# Altium schematic symbol library Connector GOST.SchLib: 90 symbols
Pins are listed as number, name and electrical type; pins without a type are passive.

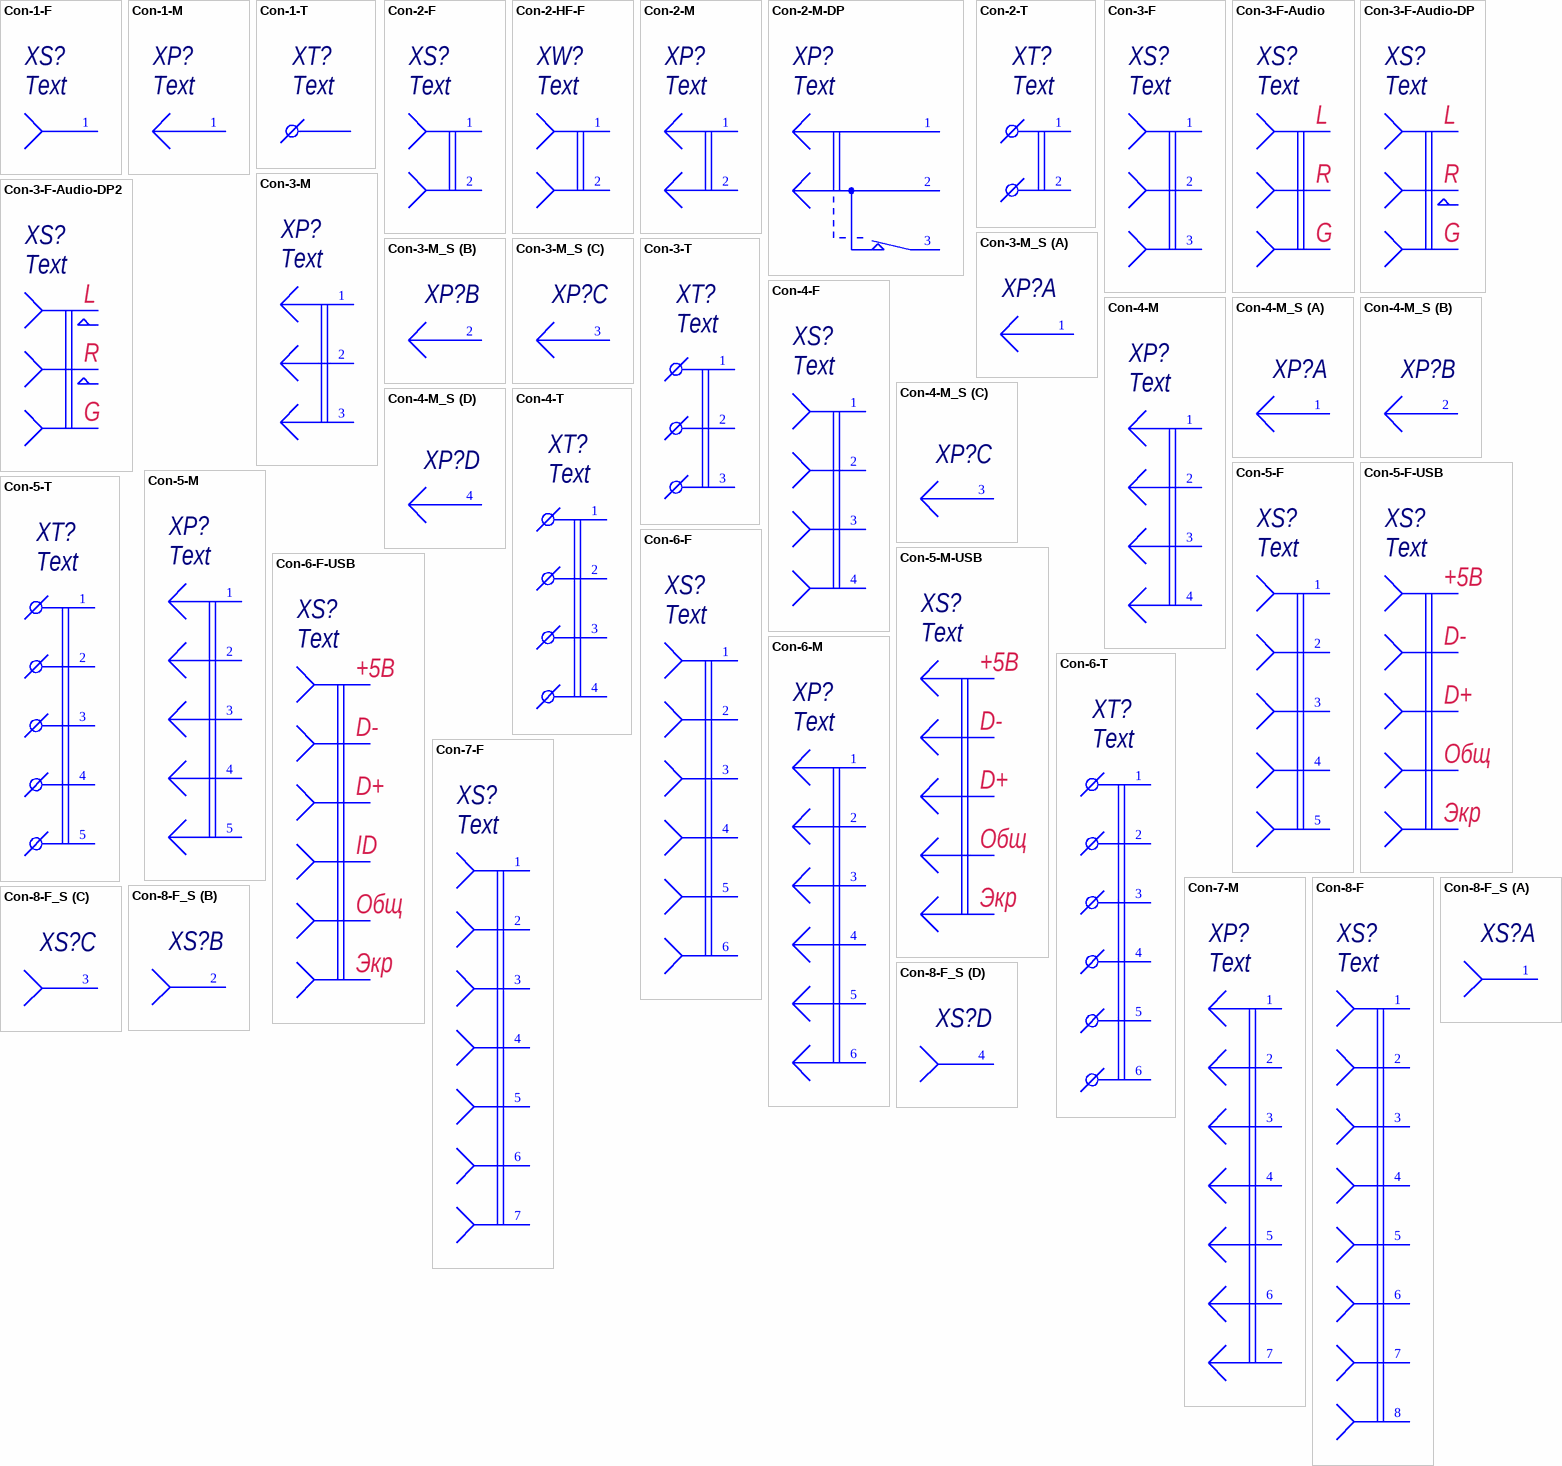
[diagram p0: symbols Con-1-F to Con-8-F_S]

## Con-1-F
designator XS?, comment Text
Published: 07.03.2013; Publisher: Andrew Danich; Type: Розетка
pins: 1

## Con-1-M
designator XP?, comment Text
Value: Connector; Published: 07.03.2013; Publisher: Andrew Danich; Type: Вилка
pins: 1

## Con-1-T
designator XT?, comment Text
Published: 27.07.2015; Publisher: Andrew Danich; Type: Клеммный соединитель
pins: 1

## Con-2-F
designator XS?, comment Text
Value: Connector; Published: 07.03.2013; Publisher: Andrew Danich; Type: Розетка
pins: 1, 2

## Con-2-HF-F
designator XW?, comment Text
Published: 27.07.2015; Publisher: Andrew Danich; Type: Розетка
pins: 1, 2

## Con-2-M
designator XP?, comment Text
Value: Connector; Published: 07.03.2013; Publisher: Andrew Danich; Type: Вилка
pins: 1, 2

## Con-2-M-DP
designator XP?, comment Text
Value: Connector; Published: 07.03.2013; Publisher: Andrew Danich; Type: Вилка
pins: 1, 2, 3

## Con-2-T
designator XT?, comment Text
Published: 27.07.2015; Publisher: Andrew Danich; Type: Клеммный соединитель
pins: 1, 2

## Con-3-F
designator XS?, comment Text
Value: Connector; Published: 07.03.2013; Publisher: Andrew Danich; Type: Розетка
pins: 1, 2, 3

## Con-3-F-Audio
designator XS?, comment Text
Published: 07.03.2013; Publisher: Andrew Danich; Type: Розетка
pins: 1, 2, 3
text: L; R; G

## Con-3-F-Audio-DP
designator XS?, comment Text
Published: 07.03.2013; Publisher: Andrew Danich; Type: Розетка
pins: 1, 2, 3, 4
text: L; R; G

## Con-3-F-Audio-DP2
designator XS?, comment Text
Published: 07.03.2013; Publisher: Andrew Danich; Type: Розетка
pins: 1, 2, 3, 4, 5
text: L; R; G

## Con-3-M
designator XP?, comment Text
Published: 07.03.2013; Publisher: Andrew Danich; Type: Вилка
pins: 1, 2, 3

## Con-3-M_S
designator XP?
Published: 07.03.2013; Publisher: Andrew Danich; Type: Вилка
part A pins: 1
part B pins: 2
part C pins: 3

## Con-3-T
designator XT?, comment Text
Published: 27.07.2015; Publisher: Andrew Danich; Type: Клеммный соединитель
pins: 1, 2, 3

## Con-4-F
designator XS?, comment Text
Value: Connector; Published: 07.03.2013; Publisher: Andrew Danich; Type: Розетка
pins: 1, 2, 3, 4

## Con-4-M
designator XP?, comment Text
Value: Connector; Published: 07.03.2013; Publisher: Andrew Danich; Type: Вилка
pins: 1, 2, 3, 4

## Con-4-M_S
designator XP?
Value: Connector; Published: 07.03.2013; Publisher: Andrew Danich; Type: Вилка
part A pins: 1
part B pins: 2
part C pins: 3
part D pins: 4

## Con-4-T
designator XT?, comment Text
Published: 27.07.2015; Publisher: Andrew Danich; Type: Клеммный соединитель
pins: 1, 2, 3, 4

## Con-5-F
designator XS?, comment Text
Value: Connector; Published: 07.03.2013; Publisher: Andrew Danich; Type: Розетка
pins: 1, 2, 3, 4, 5

## Con-5-F-USB
designator XS?, comment Text
Value: Connector; Published: 07.03.2013; Publisher: Andrew Danich; Type: Розетка
pins: 1, 2, 3, 4, 5
text: +5В; D-; D+; Общ; Экр

## Con-5-M
designator XP?, comment Text
Value: Connector; Published: 07.03.2013; Publisher: Andrew Danich; Type: Вилка
pins: 1, 2, 3, 4, 5

## Con-5-M-USB
designator XS?, comment Text
Published: 13.08.2015; Publisher: Andrew Danich; Type: Вилка
pins: 1, 2, 3, 4, 5
text: +5В; D-; D+; Общ; Экр

## Con-5-T
designator XT?, comment Text
Published: 27.07.2015; Publisher: Andrew Danich; Type: Клеммный соединитель
pins: 1, 2, 3, 4, 5

## Con-6-F
designator XS?, comment Text
Value: Connector; Published: 07.03.2013; Publisher: Andrew Danich; Type: Розетка
pins: 1, 2, 3, 4, 5, 6

## Con-6-F-USB
designator XS?, comment Text
Published: 11.04.2016; Publisher: Andrew Danich; Type: Розетка
pins: 1, 2, 3, 4, 5, 6
text: +5В; D-; D+; ID; Общ; Экр

## Con-6-M
designator XP?, comment Text
Value: Connector; Published: 07.03.2013; Publisher: Andrew Danich; Type: Вилка
pins: 1, 2, 3, 4, 5, 6

## Con-6-T
designator XT?, comment Text
Published: 27.07.2015; Publisher: Andrew Danich; Type: Клеммный соединитель
pins: 1, 2, 3, 4, 5, 6

## Con-7-F
designator XS?, comment Text
Value: Connector; Published: 07.03.2013; Publisher: Andrew Danich; Type: Розетка
pins: 1, 2, 3, 4, 5, 6, 7

## Con-7-M
designator XP?, comment Text
Value: Connector; Published: 07.03.2013; Publisher: Andrew Danich; Type: Вилка
pins: 1, 2, 3, 4, 5, 6, 7

## Con-8-F
designator XS?, comment Text
Value: Connector; Published: 07.03.2013; Publisher: Andrew Danich; Type: Розетка
pins: 1, 2, 3, 4, 5, 6, 7, 8

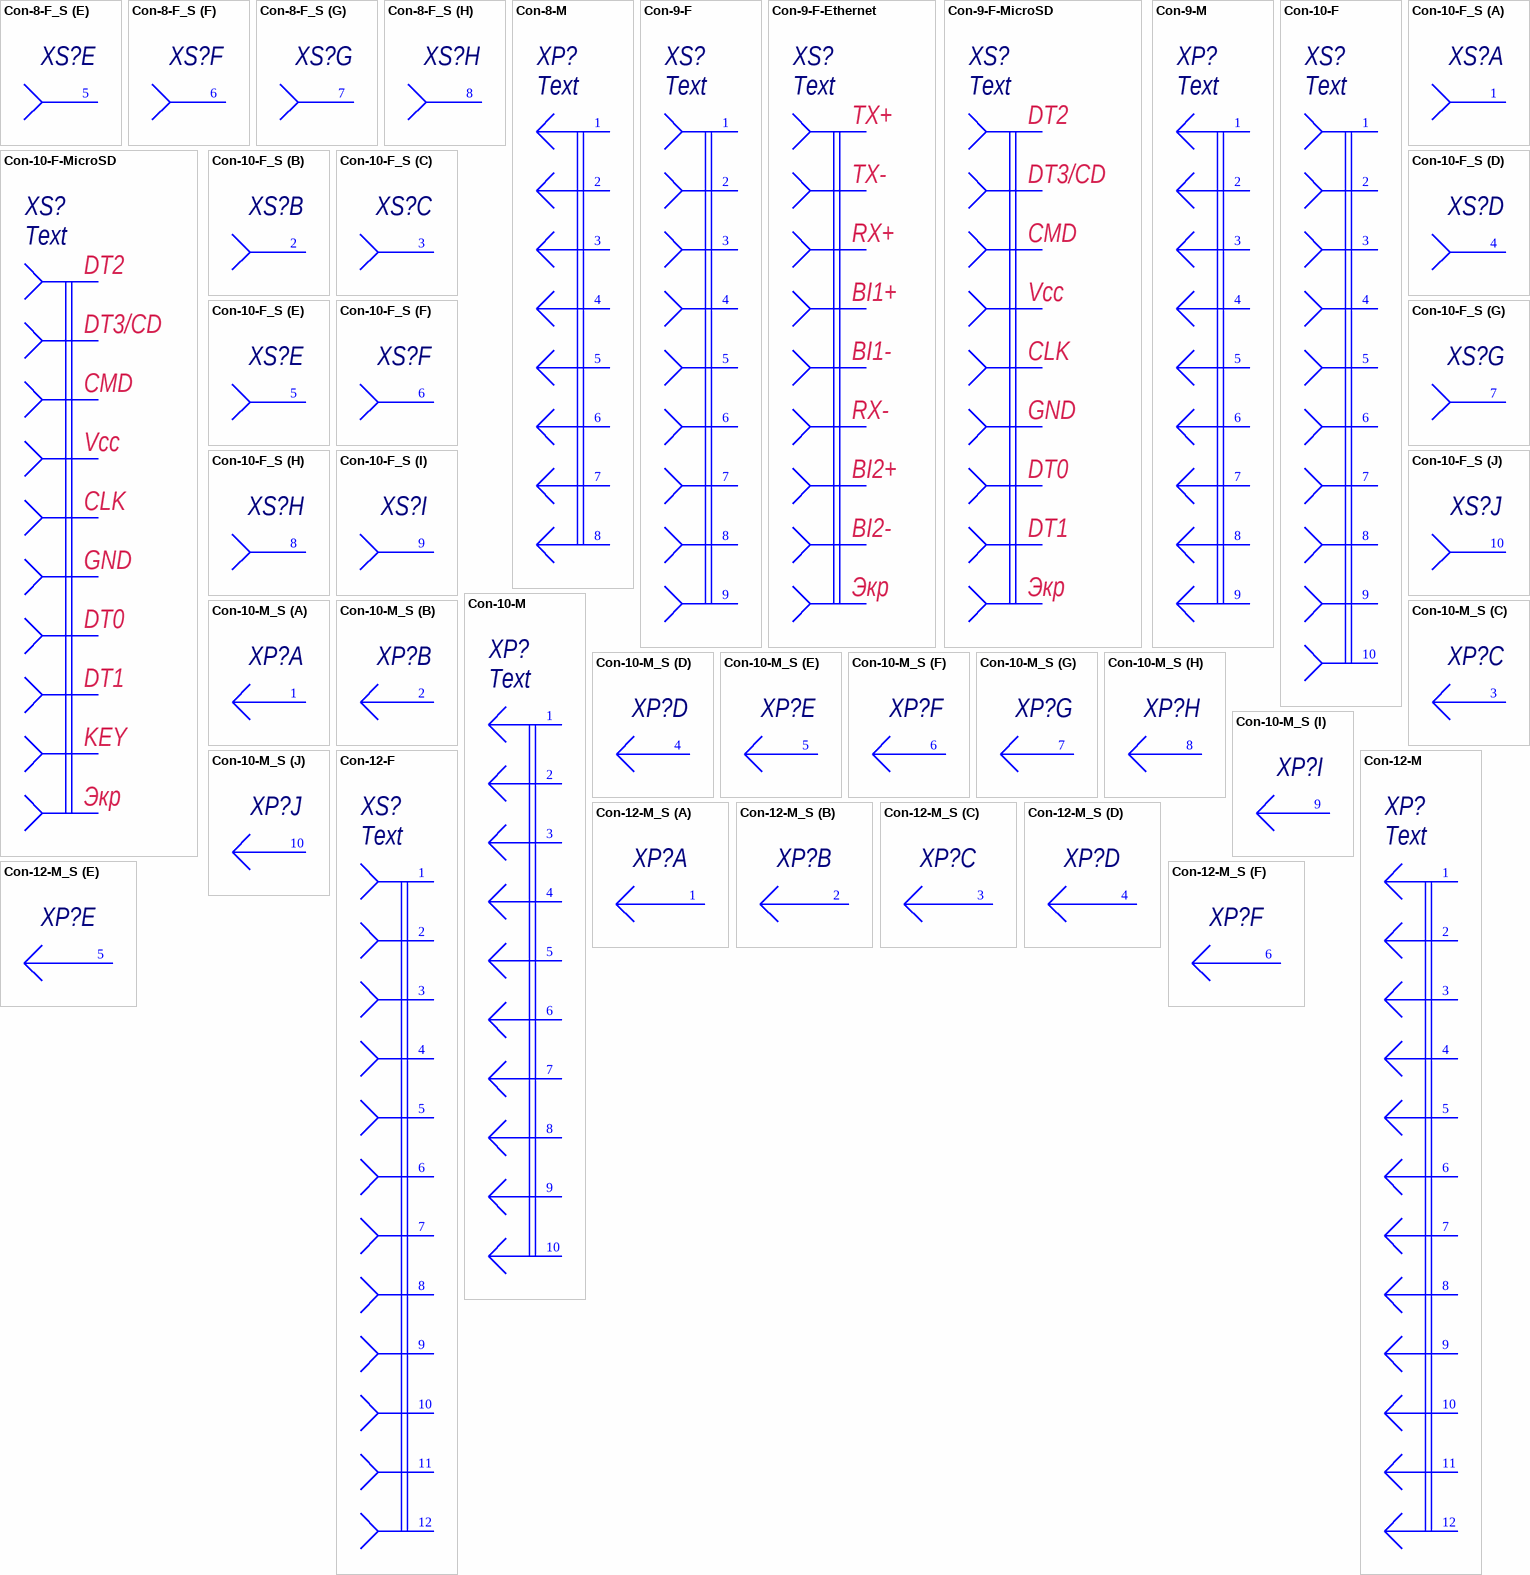
[diagram p1: symbols Con-8-F_S to Con-12-M_S]

## Con-8-F_S
designator XS?
Published: 16.02.2017; Publisher: Viktor Klishin; Type: Розетка
part A pins: 1
part B pins: 2
part C pins: 3
part D pins: 4
part E pins: 5
part F pins: 6
part G pins: 7
part H pins: 8

## Con-8-M
designator XP?, comment Text
Value: Connector; Published: 07.03.2013; Publisher: Andrew Danich; Type: Вилка
pins: 1, 2, 3, 4, 5, 6, 7, 8

## Con-9-F
designator XS?, comment Text
Value: Connector; Published: 07.03.2013; Publisher: Andrew Danich; Type: Розетка
pins: 1, 2, 3, 4, 5, 6, 7, 8, 9

## Con-9-F-Ethernet
designator XS?, comment Text
Value: Connector; Published: 07.03.2013; Publisher: Andrew Danich; Type: Розетка
pins: 1, 2, 3, 4, 5, 6, 7, 8, 9
text: TX+; TX-; RX+; BI1+; BI1-; RX-; BI2+; BI2-; Экр

## Con-9-F-MicroSD
designator XS?, comment Text
Value: Connector; Published: 07.03.2013; Publisher: Andrew Danich; Type: Розетка
pins: 1, 2, 3, 4, 5, 6, 7, 8, 9
text: DT2; DT3/CD; CMD; Vcc; CLK; GND; DT0; DT1; Экр

## Con-9-M
designator XP?, comment Text
Value: Connector; Published: 07.03.2013; Publisher: Andrew Danich; Type: Вилка
pins: 1, 2, 3, 4, 5, 6, 7, 8, 9

## Con-10-F
designator XS?, comment Text
Value: Connector; Published: 07.03.2013; Publisher: Andrew Danich; Type: Розетка
pins: 1, 2, 3, 4, 5, 6, 7, 8, 9, 10

## Con-10-F-MicroSD
designator XS?, comment Text
Value: Connector; Published: 05.09.2013; Publisher: Andrew Danich; Type: Розетка
pins: 1, 2, 3, 4, 5, 6, 7, 8, 9, 10
text: DT2; DT3/CD; CMD; Vcc; CLK; GND; DT0; DT1; KEY; Экр

## Con-10-F_S
designator XS?
Published: 07.09.2015; Publisher: Viktor Klishin; Type: Розетка
part A pins: 1
part B pins: 2
part C pins: 3
part D pins: 4
part E pins: 5
part F pins: 6
part G pins: 7
part H pins: 8
part I pins: 9
part J pins: 10

## Con-10-M
designator XP?, comment Text
Value: Connector; Published: 07.03.2013; Publisher: Andrew Danich; Type: Вилка
pins: 1, 2, 3, 4, 5, 6, 7, 8, 9, 10

## Con-10-M_S
designator XP?, comment Text  (value not drawn)
Value: Connector; Published: 07.03.2013; Publisher: Andrew Danich; Type: Вилка
part A pins: 1
part B pins: 2
part C pins: 3
part D pins: 4
part E pins: 5
part F pins: 6
part G pins: 7
part H pins: 8
part I pins: 9
part J pins: 10

## Con-12-F
designator XS?, comment Text
Value: Connector; Published: 07.03.2013; Publisher: Andrew Danich; Type: Розетка
pins: 1, 2, 3, 4, 5, 6, 7, 8, 9, 10, 11, 12

## Con-12-M
designator XP?, comment Text
Value: Connector; Published: 07.03.2013; Publisher: Andrew Danich; Type: Вилка
pins: 1, 2, 3, 4, 5, 6, 7, 8, 9, 10, 11, 12

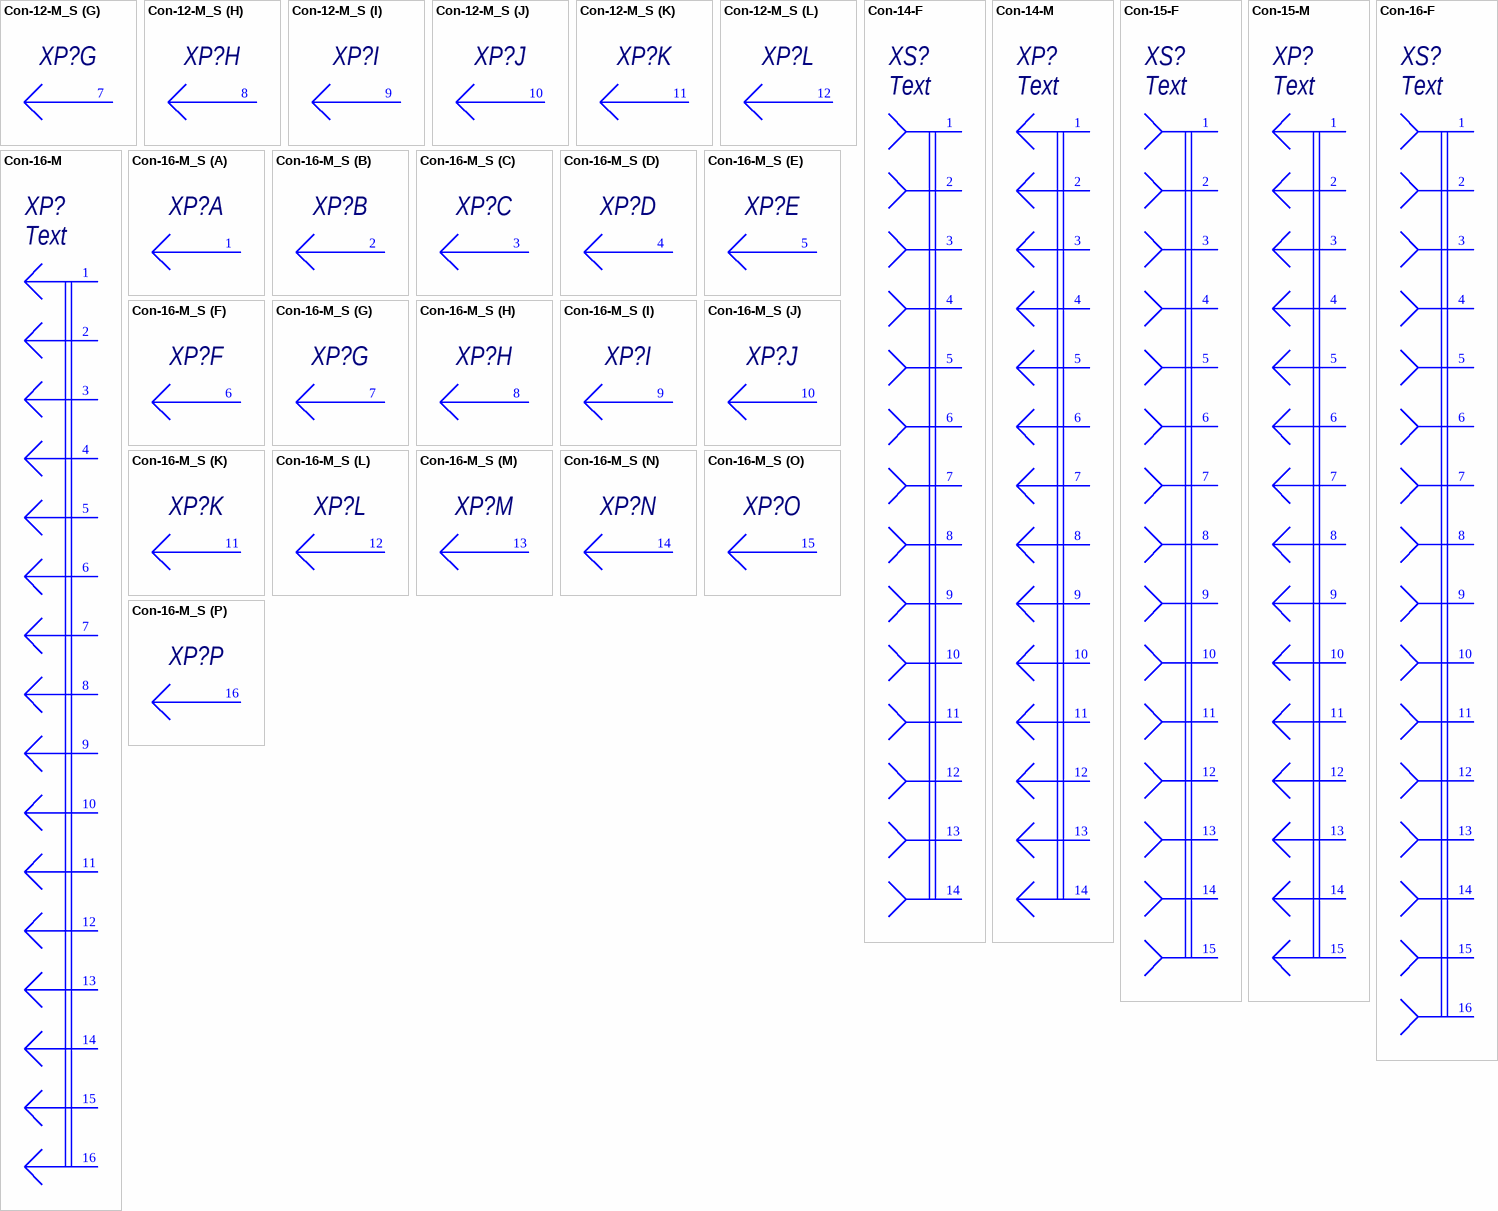
[diagram p2: symbols Con-12-M_S to Con-16-M_S]

## Con-12-M_S
designator XP?, comment Text  (value not drawn)
Value: Connector; Published: 28.08.2015; Publisher: НТЦ "Вектор"; Type: Вилка
part A pins: 1
part B pins: 2
part C pins: 3
part D pins: 4
part E pins: 5
part F pins: 6
part G pins: 7
part H pins: 8
part I pins: 9
part J pins: 10
part K pins: 11
part L pins: 12

## Con-14-F
designator XS?, comment Text
Value: Connector; Published: 07.03.2013; Publisher: Andrew Danich; Type: Розетка
pins: 1, 2, 3, 4, 5, 6, 7, 8, 9, 10, 11, 12, 13, 14

## Con-14-M
designator XP?, comment Text
Value: Connector; Published: 07.03.2013; Publisher: Andrew Danich; Type: Вилка
pins: 1, 2, 3, 4, 5, 6, 7, 8, 9, 10, 11, 12, 13, 14

## Con-15-F
designator XS?, comment Text
Value: Connector; Published: 07.03.2013; Publisher: Andrew Danich; Type: Розетка
pins: 1, 2, 3, 4, 5, 6, 7, 8, 9, 10, 11, 12, 13, 14, 15

## Con-15-M
designator XP?, comment Text
Value: Connector; Published: 07.03.2013; Publisher: Andrew Danich; Type: Вилка
pins: 1, 2, 3, 4, 5, 6, 7, 8, 9, 10, 11, 12, 13, 14, 15

## Con-16-F
designator XS?, comment Text
Value: Connector; Published: 07.03.2013; Publisher: Andrew Danich; Type: Розетка
pins: 1, 2, 3, 4, 5, 6, 7, 8, 9, 10, 11, 12, 13, 14, 15, 16

## Con-16-M
designator XP?, comment Text
Value: Connector; Published: 07.03.2013; Publisher: Andrew Danich; Type: Вилка
pins: 1, 2, 3, 4, 5, 6, 7, 8, 9, 10, 11, 12, 13, 14, 15, 16

## Con-16-M_S
designator XP?, comment Text  (value not drawn)
Value: Connector; Published: 28.08.2015; Publisher: НТЦ "Вектор"; Type: Вилка
part A pins: 1
part B pins: 2
part C pins: 3
part D pins: 4
part E pins: 5
part F pins: 6
part G pins: 7
part H pins: 8
part I pins: 9
part J pins: 10
part K pins: 11
part L pins: 12
part M pins: 13
part N pins: 14
part O pins: 15
part P pins: 16

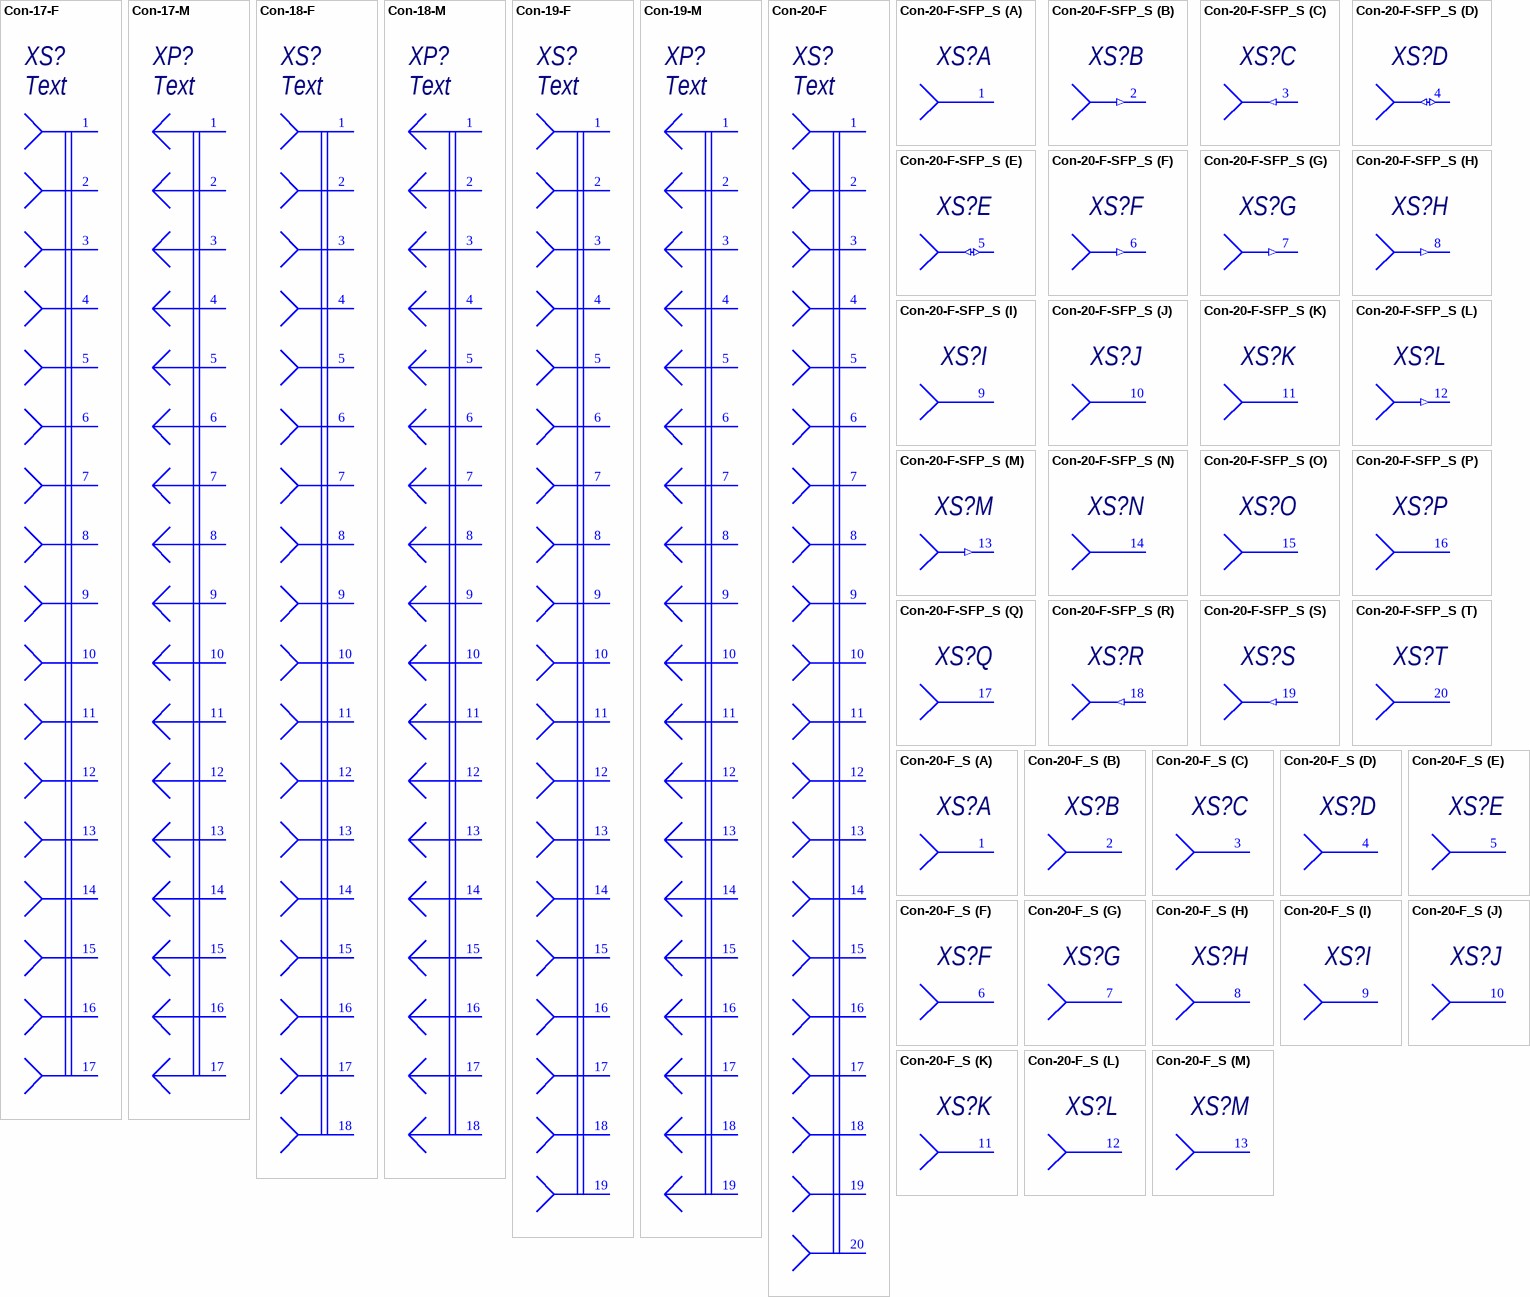
[diagram p3: symbols Con-17-F to Con-20-F_S]

## Con-17-F
designator XS?, comment Text
Value: Connector; Published: 07.03.2013; Publisher: Andrew Danich; Type: Розетка
pins: 1, 2, 3, 4, 5, 6, 7, 8, 9, 10, 11, 12, 13, 14, 15, 16, 17

## Con-17-M
designator XP?, comment Text
Value: Connector; Published: 07.03.2013; Publisher: Andrew Danich; Type: Вилка
pins: 1, 2, 3, 4, 5, 6, 7, 8, 9, 10, 11, 12, 13, 14, 15, 16, 17

## Con-18-F
designator XS?, comment Text
Value: Connector; Published: 07.03.2013; Publisher: Andrew Danich; Type: Розетка
pins: 1, 2, 3, 4, 5, 6, 7, 8, 9, 10, 11, 12, 13, 14, 15, 16, 17, 18

## Con-18-M
designator XP?, comment Text
Value: Connector; Published: 07.03.2013; Publisher: Andrew Danich; Type: Вилка
pins: 1, 2, 3, 4, 5, 6, 7, 8, 9, 10, 11, 12, 13, 14, 15, 16, 17, 18

## Con-19-F
designator XS?, comment Text
Value: Connector; Published: 07.03.2013; Publisher: Andrew Danich; Type: Розетка
pins: 1, 2, 3, 4, 5, 6, 7, 8, 9, 10, 11, 12, 13, 14, 15, 16, 17, 18, 19

## Con-19-M
designator XP?, comment Text
Value: Connector; Published: 07.03.2013; Publisher: Andrew Danich; Type: Вилка
pins: 1, 2, 3, 4, 5, 6, 7, 8, 9, 10, 11, 12, 13, 14, 15, 16, 17, 18, 19

## Con-20-F
designator XS?, comment Text
Value: Connector; Published: 07.03.2013; Publisher: Andrew Danich; Type: Розетка
pins: 1, 2, 3, 4, 5, 6, 7, 8, 9, 10, 11, 12, 13, 14, 15, 16, 17, 18, 19, 20

## Con-20-F-SFP_S
designator XS?
20 Pin SMT Connector SFP/SFP+; Published: 07.09.2015; Publisher: Viktor Klishin; Type: Розетка
part A pins: 1 VeeT (power) "Transmitter Ground"
part B pins: 2 TxFault (out) "Transmitter Fault Indication"
part C pins: 3 TxDisable (in) "Transmitter Disable"
part D pins: 4 MOD_DEF2 (io) "Module Definition 2"
part E pins: 5 MOD_DEF1 (io) "Module Definition 1"
part F pins: 6 MOD_DEF0 (out) "Module Definition 0"
part G pins: 7 RateSelect (out) "Select between full or reduced receiver bandwidth"
part H pins: 8 LOS (out) "Loss of Signal"
part I pins: 9 VeeR (power) "Receiver Ground"
part J pins: 10 VeeR (power) "Receiver Ground"
part K pins: 11 VeeR (power) "Receiver Ground"
part L pins: 12 RD- (out) "Inv. Received Data Out"
part M pins: 13 RD+ (out) "Received Data Out"
part N pins: 14 VeeR (power) "Receiver Ground"
part O pins: 15 VccR (power) "Receiver Power"
part P pins: 16 VccT (power) "Transmitter Power"
part Q pins: 17 VeeT (power) "Transmitter Ground"
part R pins: 18 TD+ (in) "Transmit Data In"
part S pins: 19 TD- (in) "Inv. Transmit Data In"
part T pins: 20 VeeT (power) "Transmitter Ground"

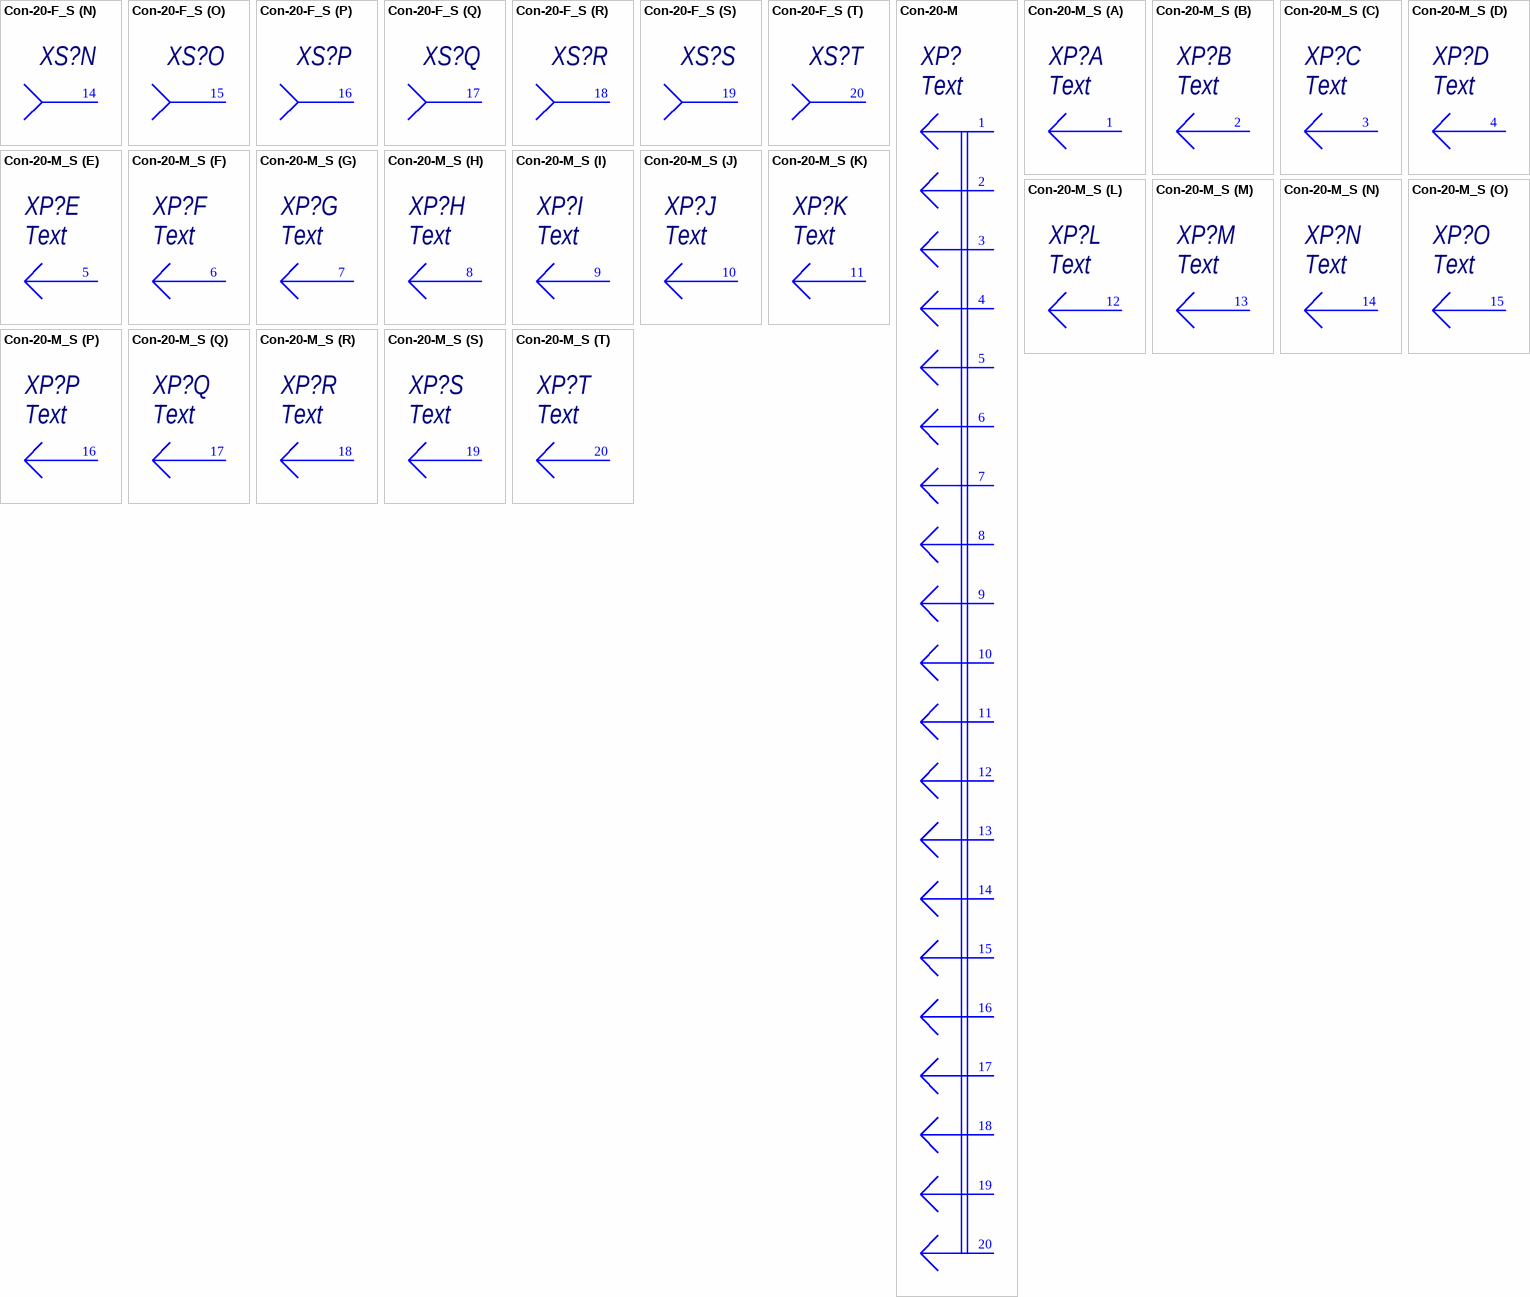
[diagram p4: symbols Con-20-F_S to Con-20-M_S]

## Con-20-F_S
designator XS?
Published: 07.09.2015; Publisher: Viktor Klishin; Type: Розетка
part A pins: 1
part B pins: 2
part C pins: 3
part D pins: 4
part E pins: 5
part F pins: 6
part G pins: 7
part H pins: 8
part I pins: 9
part J pins: 10
part K pins: 11
part L pins: 12
part M pins: 13
part N pins: 14
part O pins: 15
part P pins: 16
part Q pins: 17
part R pins: 18
part S pins: 19
part T pins: 20

## Con-20-M
designator XP?, comment Text
Value: Connector; Published: 07.03.2013; Publisher: Andrew Danich; Type: Вилка
pins: 1, 2, 3, 4, 5, 6, 7, 8, 9, 10, 11, 12, 13, 14, 15, 16, 17, 18, 19, 20

## Con-20-M_S
designator XP?, comment Text
Published: 24.08.2015; Publisher: Andrew Danich; Type: Вилка
part A pins: 1
part B pins: 2
part C pins: 3
part D pins: 4
part E pins: 5
part F pins: 6
part G pins: 7
part H pins: 8
part I pins: 9
part J pins: 10
part K pins: 11
part L pins: 12
part M pins: 13
part N pins: 14
part O pins: 15
part P pins: 16
part Q pins: 17
part R pins: 18
part S pins: 19
part T pins: 20

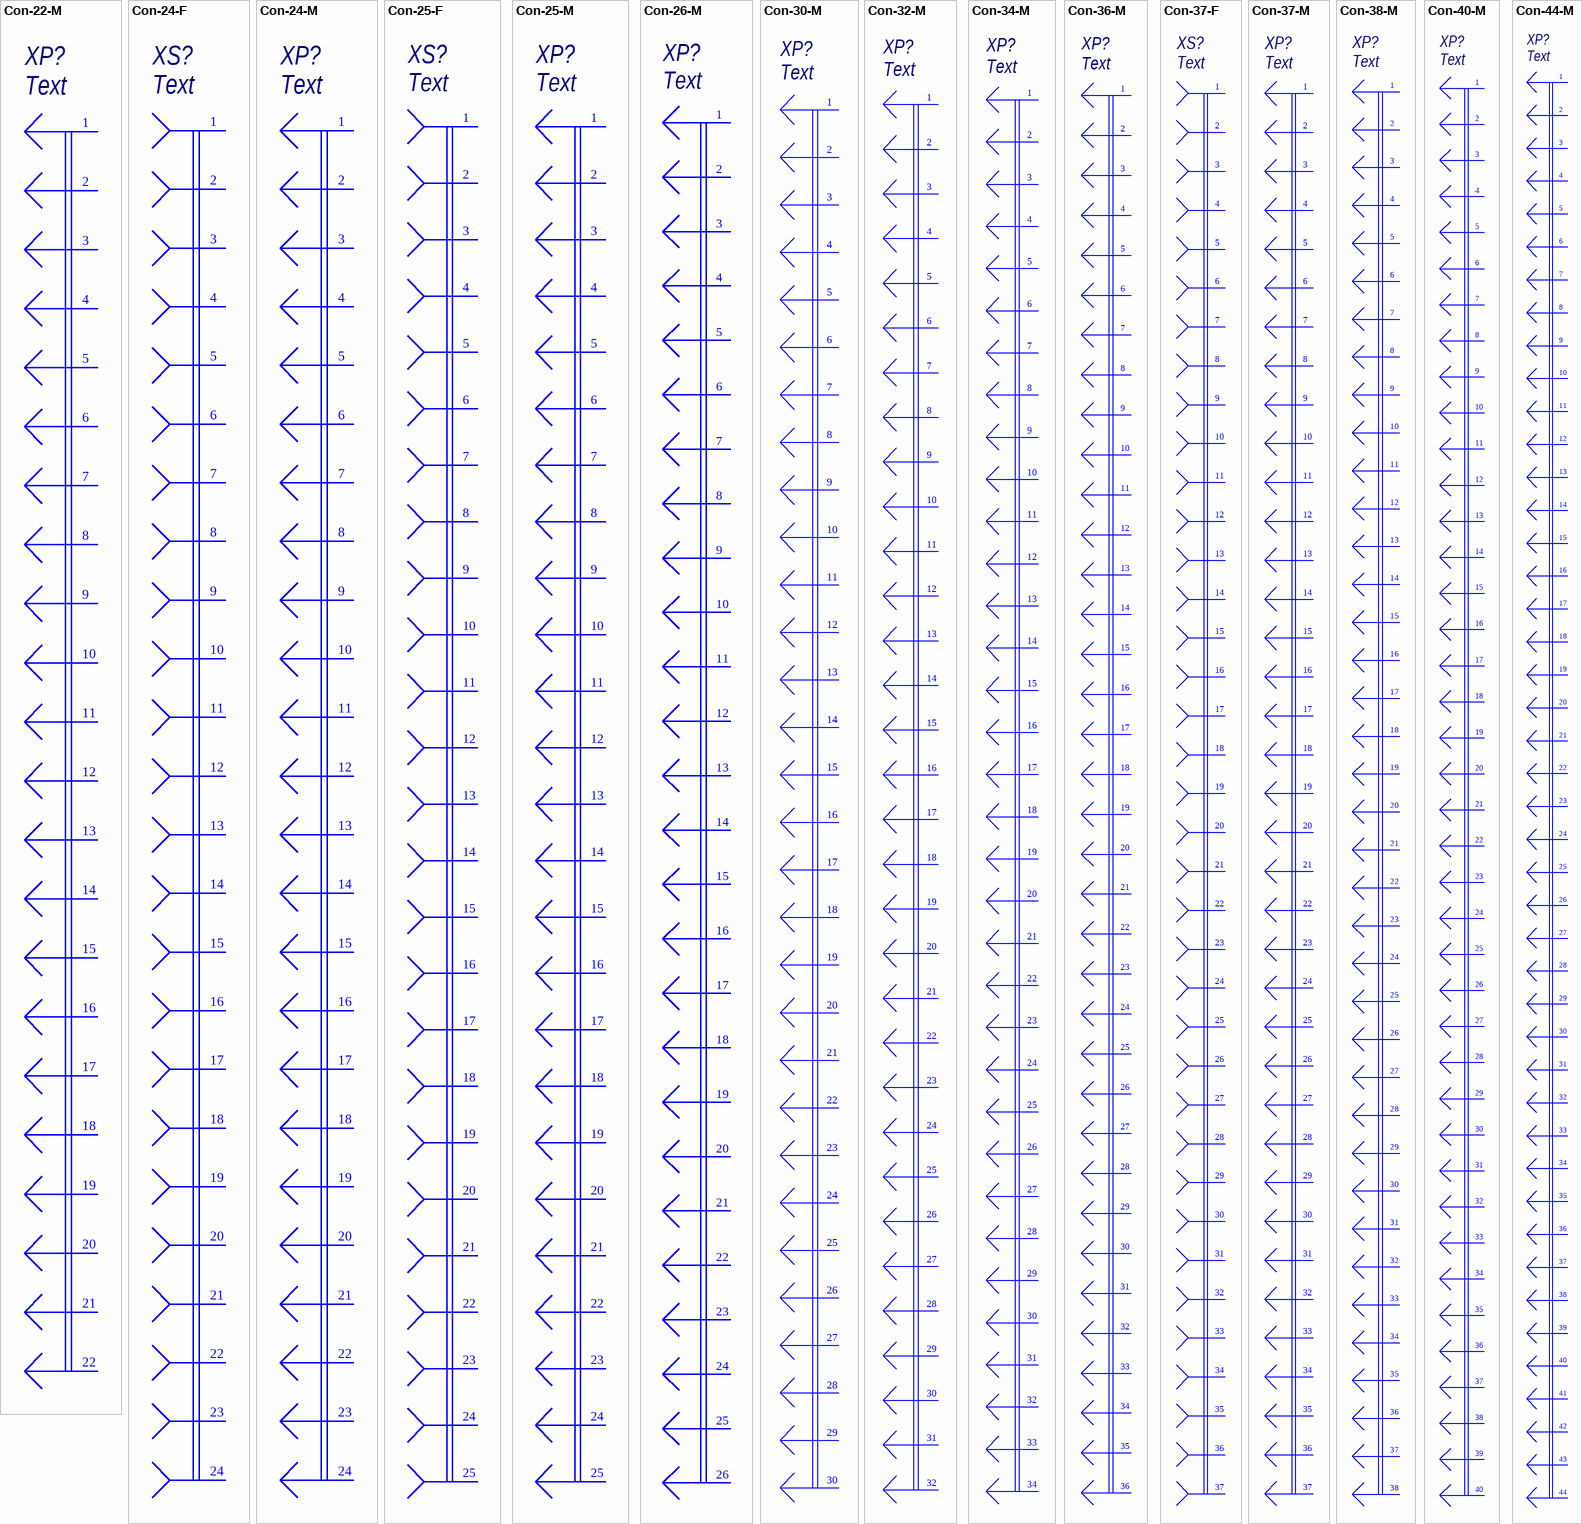
[diagram p5: symbols Con-22-M to Con-44-M]

## Con-22-M
designator XP?, comment Text
Published: 02.02.2015; Publisher: Andrew Danich; Type: Вилка
pins: 1, 2, 3, 4, 5, 6, 7, 8, 9, 10, 11, 12, 13, 14, 15, 16, 17, 18, 19, 20, 21, 22

## Con-24-F
designator XS?, comment Text
Value: Connector; Published: 07.03.2013; Publisher: Andrew Danich; Type: Розетка
pins: 1, 2, 3, 4, 5, 6, 7, 8, 9, 10, 11, 12, 13, 14, 15, 16, 17, 18, 19, 20, 21, 22, 23, 24

## Con-24-M
designator XP?, comment Text
Value: Connector; Published: 07.03.2013; Publisher: Andrew Danich; Type: Вилка
pins: 1, 2, 3, 4, 5, 6, 7, 8, 9, 10, 11, 12, 13, 14, 15, 16, 17, 18, 19, 20, 21, 22, 23, 24

## Con-25-F
designator XS?, comment Text
Value: Connector; Published: 07.03.2013; Publisher: Andrew Danich; Type: Розетка
pins: 1, 2, 3, 4, 5, 6, 7, 8, 9, 10, 11, 12, 13, 14, 15, 16, 17, 18, 19, 20, 21, 22, 23, 24, 25

## Con-25-M
designator XP?, comment Text
Value: Connector; Published: 07.03.2013; Publisher: Andrew Danich; Type: Вилка
pins: 1, 2, 3, 4, 5, 6, 7, 8, 9, 10, 11, 12, 13, 14, 15, 16, 17, 18, 19, 20, 21, 22, 23, 24, 25

## Con-26-M
designator XP?, comment Text
Published: 02.02.2015; Publisher: Andrew Danich; Type: Вилка
pins: 1, 2, 3, 4, 5, 6, 7, 8, 9, 10, 11, 12, 13, 14, 15, 16, 17, 18, 19, 20, 21, 22, 23, 24, 25, 26

## Con-30-M
designator XP?, comment Text
Published: 02.02.2015; Publisher: Andrew Danich; Type: Вилка
pins: 1, 2, 3, 4, 5, 6, 7, 8, 9, 10, 11, 12, 13, 14, 15, 16, 17, 18, 19, 20, 21, 22, 23, 24, 25, 26, 27, 28, 29, 30

## Con-32-M
designator XP?, comment Text
Published: 02.02.2015; Publisher: Andrew Danich; Type: Вилка
pins: 1, 2, 3, 4, 5, 6, 7, 8, 9, 10, 11, 12, 13, 14, 15, 16, 17, 18, 19, 20, 21, 22, 23, 24, 25, 26, 27, 28, 29, 30, 31, 32

## Con-34-M
designator XP?, comment Text
Published: 02.02.2015; Publisher: Andrew Danich; Type: Вилка
pins: 1, 2, 3, 4, 5, 6, 7, 8, 9, 10, 11, 12, 13, 14, 15, 16, 17, 18, 19, 20, 21, 22, 23, 24, 25, 26, 27, 28, 29, 30, 31, 32, 33, 34

## Con-36-M
designator XP?, comment Text
Published: 02.02.2015; Publisher: Andrew Danich; Type: Вилка
pins: 1, 2, 3, 4, 5, 6, 7, 8, 9, 10, 11, 12, 13, 14, 15, 16, 17, 18, 19, 20, 21, 22, 23, 24, 25, 26, 27, 28, 29, 30, 31, 32, 33, 34, 35, 36

## Con-37-F
designator XS?, comment Text
Published: 19.06.2015; Publisher: Andrew Danich; Type: Розетка
pins: 1, 2, 3, 4, 5, 6, 7, 8, 9, 10, 11, 12, 13, 14, 15, 16, 17, 18, 19, 20, 21, 22, 23, 24, 25, 26, 27, 28, 29, 30, 31, 32, 33, 34, 35, 36, 37

## Con-37-M
designator XP?, comment Text
Published: 19.06.2015; Publisher: Andrew Danich; Type: Вилка
pins: 1, 2, 3, 4, 5, 6, 7, 8, 9, 10, 11, 12, 13, 14, 15, 16, 17, 18, 19, 20, 21, 22, 23, 24, 25, 26, 27, 28, 29, 30, 31, 32, 33, 34, 35, 36, 37

## Con-38-M
designator XP?, comment Text
Published: 02.02.2015; Publisher: Andrew Danich; Type: Вилка
pins: 1, 2, 3, 4, 5, 6, 7, 8, 9, 10, 11, 12, 13, 14, 15, 16, 17, 18, 19, 20, 21, 22, 23, 24, 25, 26, 27, 28, 29, 30, 31, 32, 33, 34, 35, 36, 37, 38

## Con-40-M
designator XP?, comment Text
Published: 02.02.2015; Publisher: Andrew Danich; Type: Вилка
pins: 1, 2, 3, 4, 5, 6, 7, 8, 9, 10, 11, 12, 13, 14, 15, 16, 17, 18, 19, 20, 21, 22, 23, 24, 25, 26, 27, 28, 29, 30, 31, 32, 33, 34, 35, 36, 37, 38, 39, 40

## Con-44-M
designator XP?, comment Text
Published: 02.02.2015; Publisher: Andrew Danich; Type: Вилка
pins: 1, 2, 3, 4, 5, 6, 7, 8, 9, 10, 11, 12, 13, 14, 15, 16, 17, 18, 19, 20, 21, 22, 23, 24, 25, 26, 27, 28, 29, 30, 31, 32, 33, 34, 35, 36, 37, 38, 39, 40, 41, 42, 43, 44

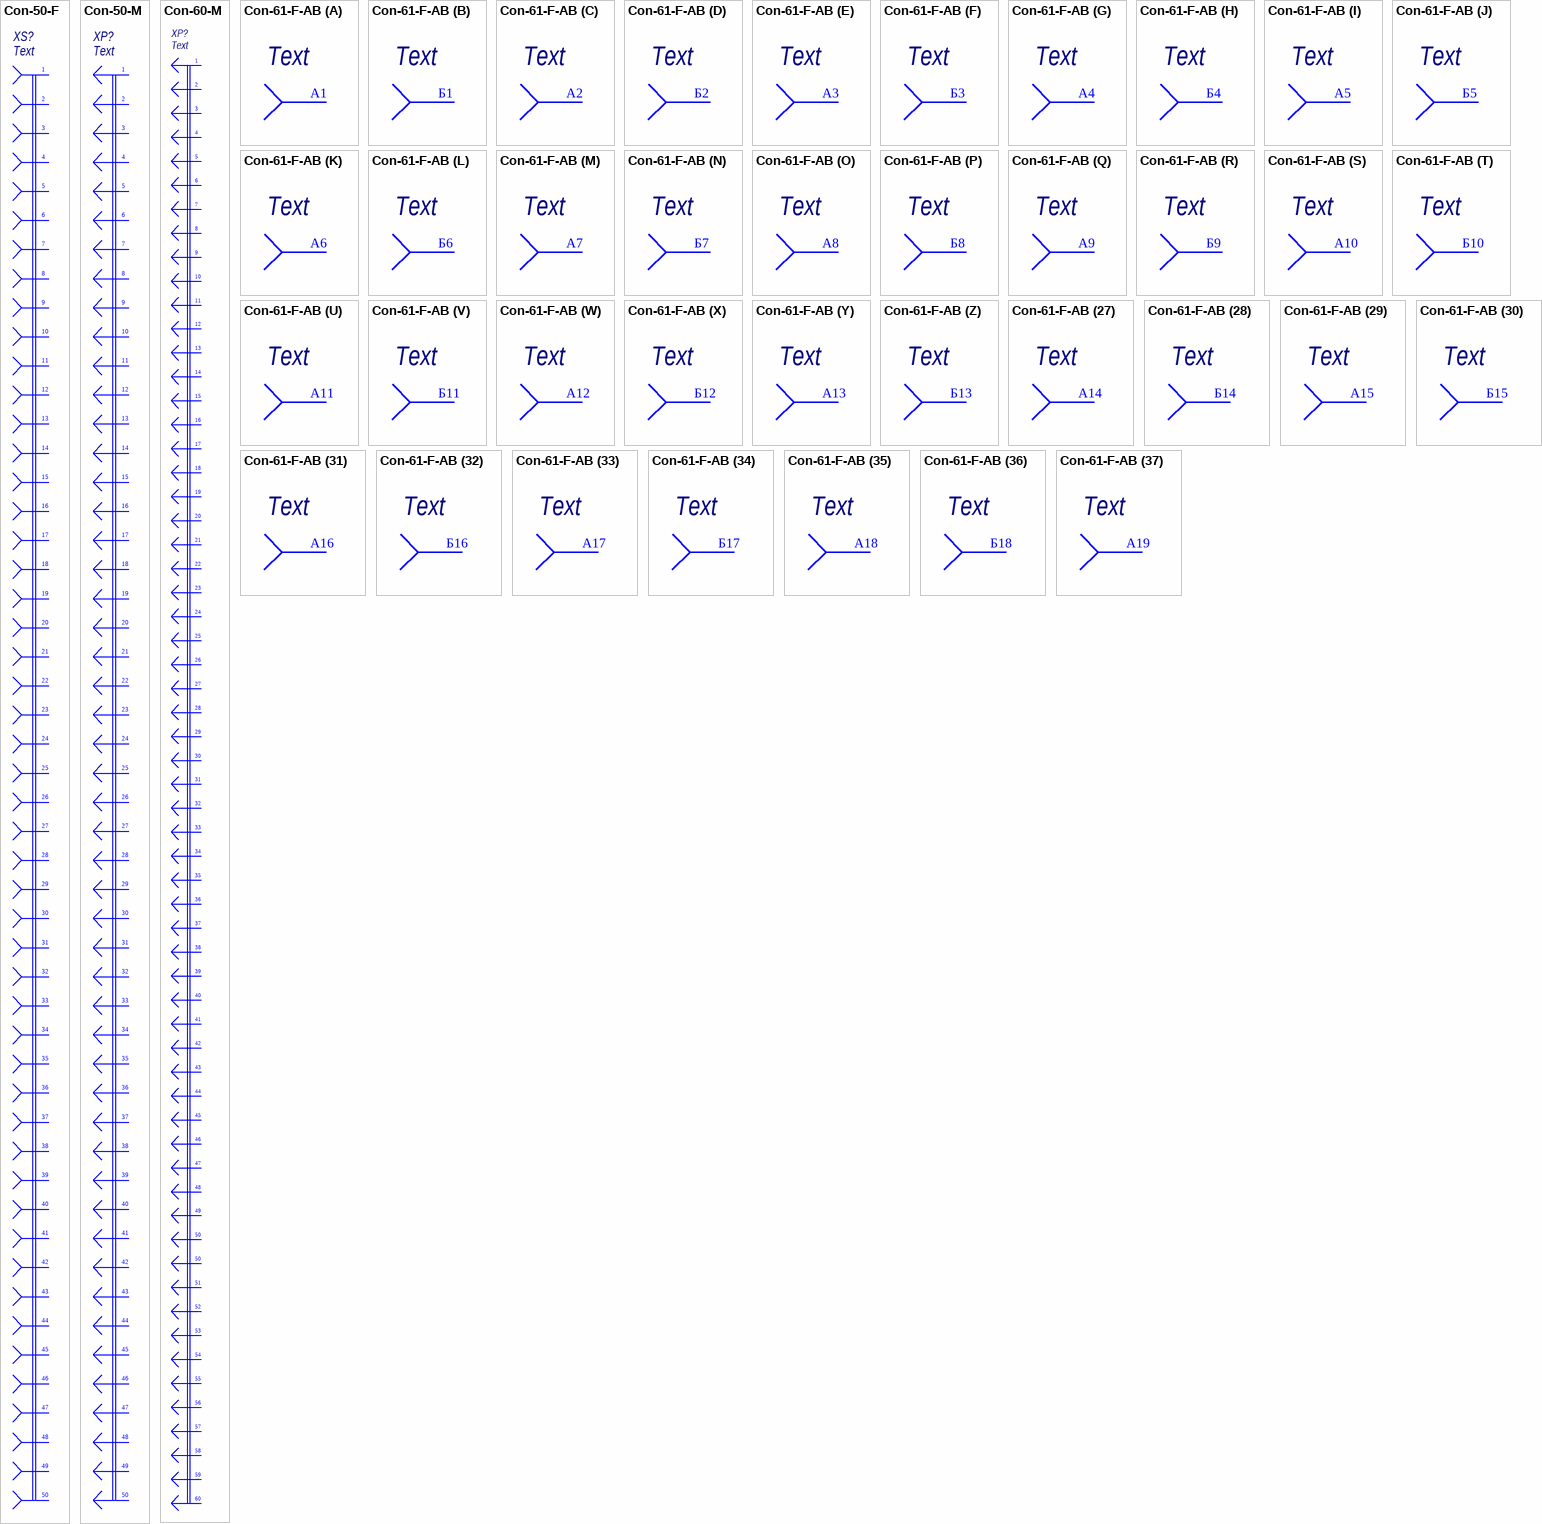
[diagram p6: symbols Con-50-F to Con-61-F-AB]

## Con-50-F
designator XS?, comment Text
Published: 07.03.2013; Publisher: Andrew Danich; Type: Розетка
pins: 1, 2, 3, 4, 5, 6, 7, 8, 9, 10, 11, 12, 13, 14, 15, 16, 17, 18, 19, 20, 21, 22, 23, 24, 25, 26, 27, 28, 29, 30, 31, 32, 33, 34, 35, 36, 37, 38, 39, 40, 41, 42, 43, 44, 45, 46, 47, 48, 49, 50

## Con-50-M
designator XP?, comment Text
Value: Connector; Published: 07.03.2013; Publisher: Andrew Danich; Type: Вилка
pins: 1, 2, 3, 4, 5, 6, 7, 8, 9, 10, 11, 12, 13, 14, 15, 16, 17, 18, 19, 20, 21, 22, 23, 24, 25, 26, 27, 28, 29, 30, 31, 32, 33, 34, 35, 36, 37, 38, 39, 40, 41, 42, 43, 44, 45, 46, 47, 48, 49, 50

## Con-60-M
designator XP?, comment Text
Published: 02.02.2015; Publisher: Andrew Danich; Type: Вилка
pins: 1, 2, 3, 4, 5, 6, 7, 8, 9, 10, 11, 12, 13, 14, 15, 16, 17, 18, 19, 20, 21, 22, 23, 24, 25, 26, 27, 28, 29, 30, 31, 32, 33, 34, 35, 36, 37, 38, 39, 40, 41, 42, 43, 44, 45, 46, 47, 48, 49, 50, 50, 51, 52, 53, 54, 55, 56, 57, 58, 59, 60

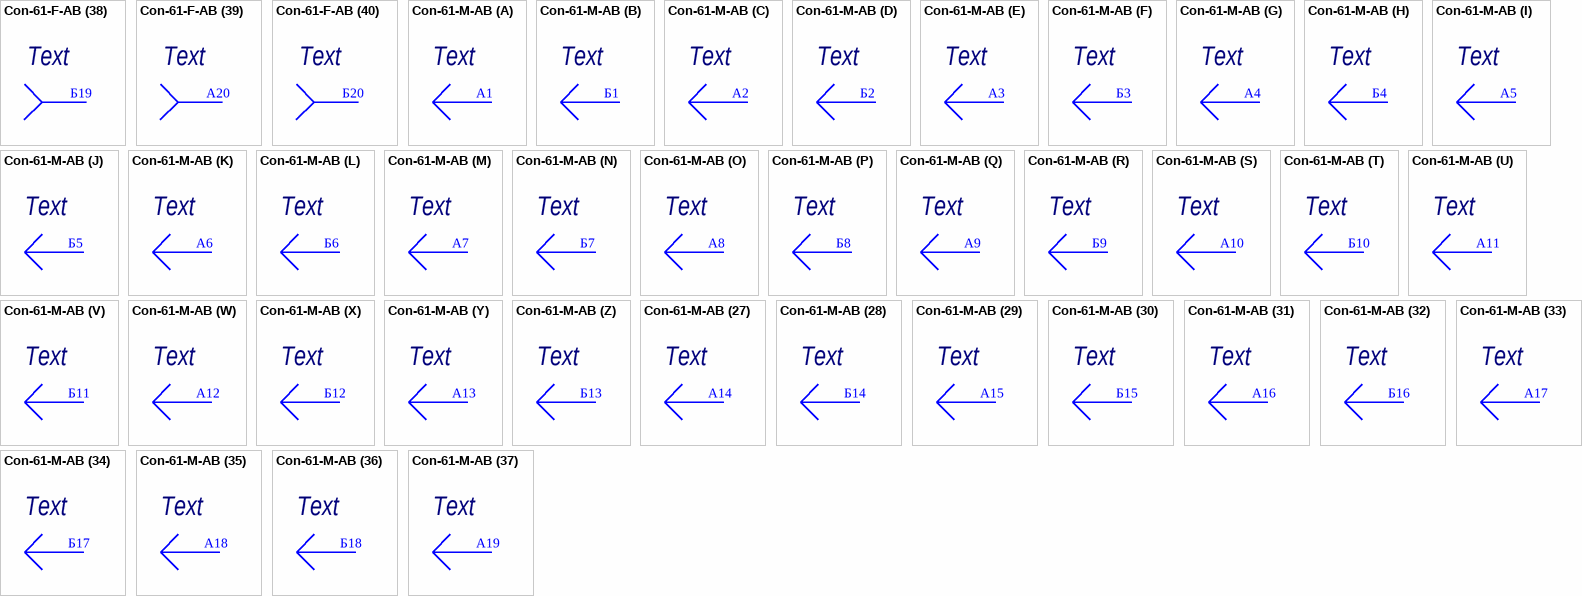
[diagram p7: symbols Con-61-F-AB to Con-61-M-AB]

## Con-61-F-AB
designator XP?, comment Text
Published: 20.01.2014; Publisher: Andrew Danich; Type: Розетка
part A pins: А1
part B pins: Б1
part C pins: А2
part D pins: Б2
part E pins: А3
part F pins: Б3
part G pins: А4
part H pins: Б4
part I pins: А5
part J pins: Б5
part K pins: А6
part L pins: Б6
part M pins: А7
part N pins: Б7
part O pins: А8
part P pins: Б8
part Q pins: А9
part R pins: Б9
part S pins: А10
part T pins: Б10
part U pins: А11
part V pins: Б11
part W pins: А12
part X pins: Б12
part Y pins: А13
part Z pins: Б13
part 27 pins: А14
part 28 pins: Б14
part 29 pins: А15
part 30 pins: Б15
part 31 pins: А16
part 32 pins: Б16
part 33 pins: А17
part 34 pins: Б17
part 35 pins: А18
part 36 pins: Б18
part 37 pins: А19
part 38 pins: Б19
part 39 pins: А20
part 40 pins: Б20
part 41 pins: А21
part 42 pins: Б21
part 43 pins: А22
part 44 pins: Б22
part 45 pins: А23
part 46 pins: Б23
part 47 pins: А24
part 48 pins: Б24
part 49 pins: А25
part 50 pins: Б25
part 51 pins: А26
part 52 pins: Б26
part 53 pins: А27
part 54 pins: Б27
part 55 pins: А28
part 56 pins: Б28
part 57 pins: А29
part 58 pins: Б29
part 59 pins: А30
part 60 pins: Б30
part 61 pins: Б31

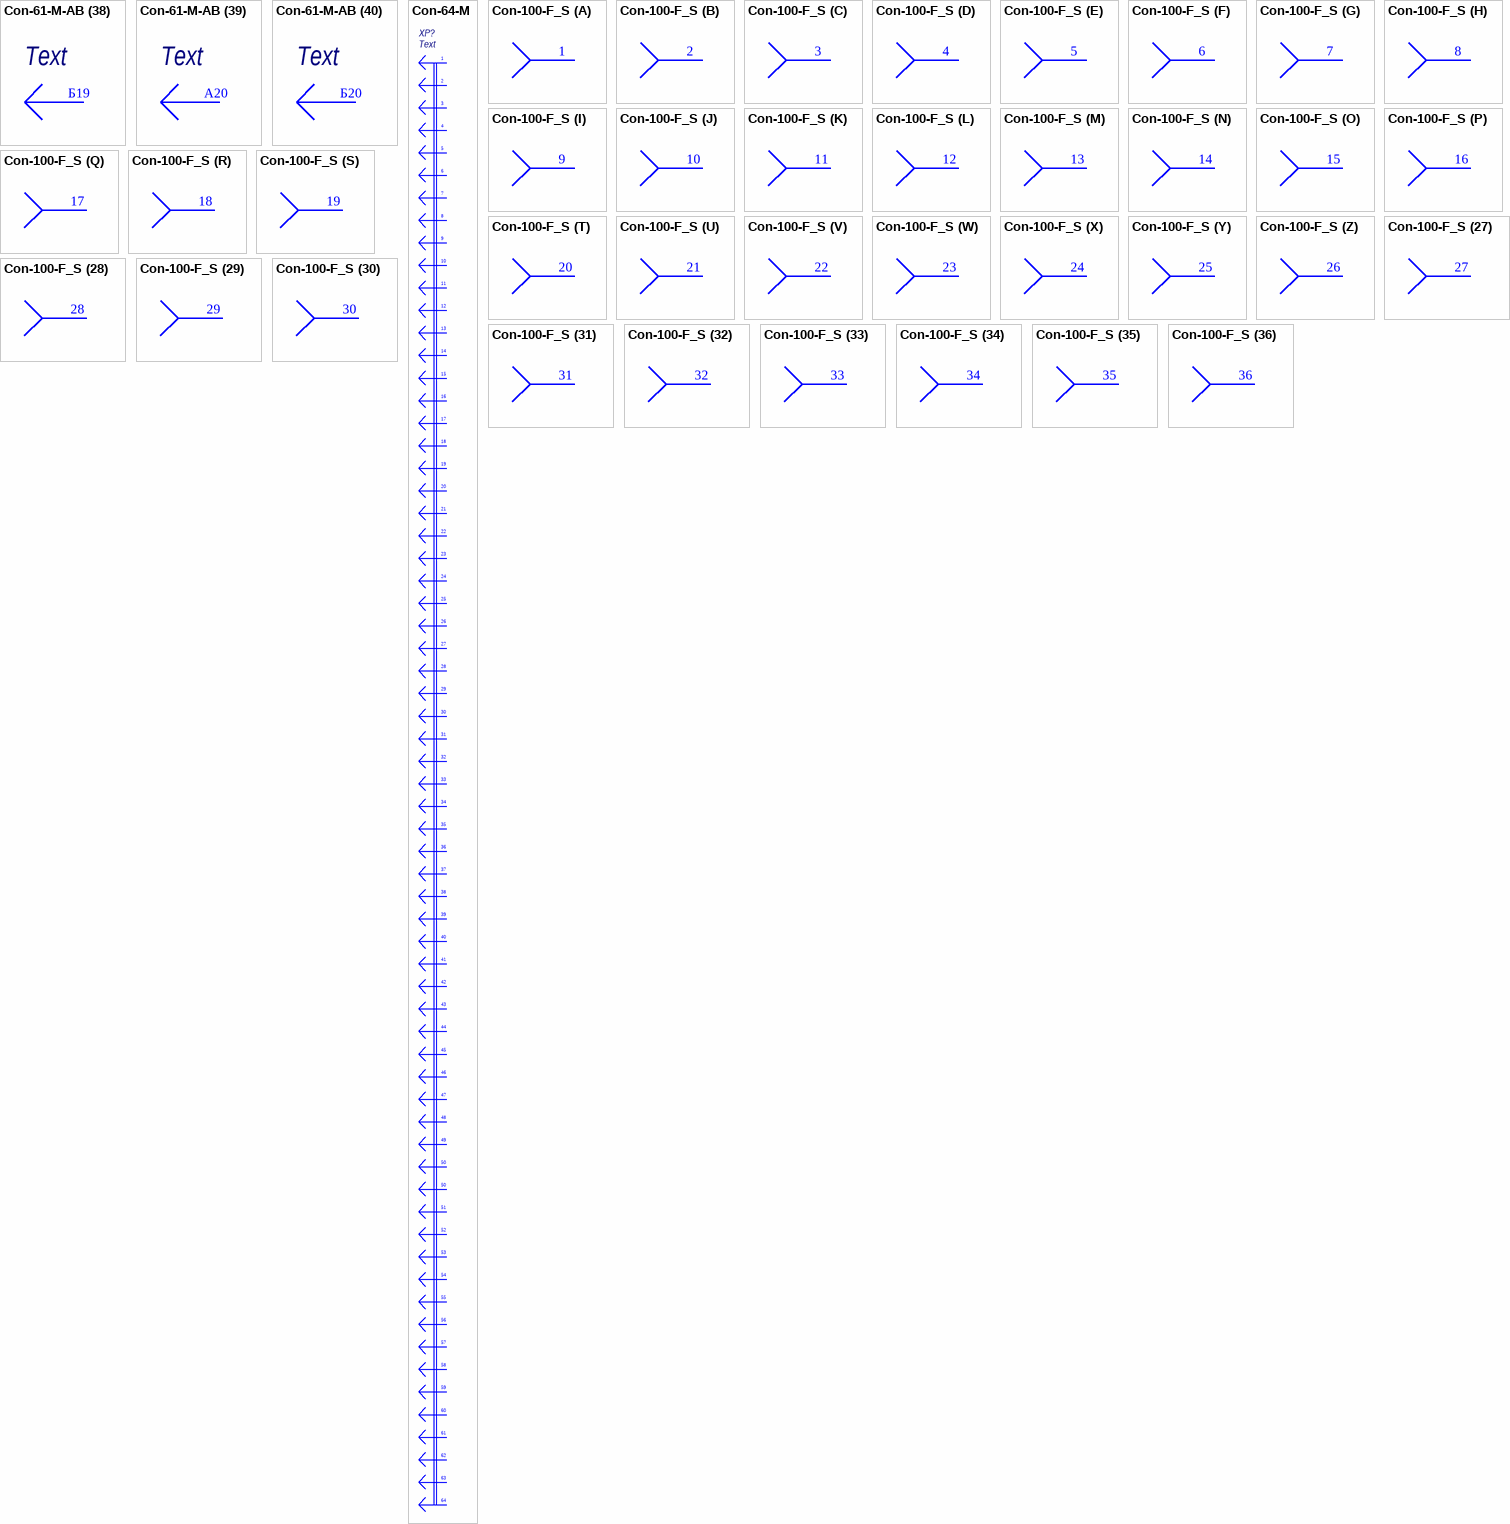
[diagram p8: symbols Con-61-M-AB to Con-100-F_S]

## Con-61-M-AB
designator XP?, comment Text
Published: 17.05.2010; Publisher: Andrew Danich; Type: Вилка
part A pins: А1
part B pins: Б1
part C pins: А2
part D pins: Б2
part E pins: А3
part F pins: Б3
part G pins: А4
part H pins: Б4
part I pins: А5
part J pins: Б5
part K pins: А6
part L pins: Б6
part M pins: А7
part N pins: Б7
part O pins: А8
part P pins: Б8
part Q pins: А9
part R pins: Б9
part S pins: А10
part T pins: Б10
part U pins: А11
part V pins: Б11
part W pins: А12
part X pins: Б12
part Y pins: А13
part Z pins: Б13
part 27 pins: А14
part 28 pins: Б14
part 29 pins: А15
part 30 pins: Б15
part 31 pins: А16
part 32 pins: Б16
part 33 pins: А17
part 34 pins: Б17
part 35 pins: А18
part 36 pins: Б18
part 37 pins: А19
part 38 pins: Б19
part 39 pins: А20
part 40 pins: Б20
part 41 pins: А21
part 42 pins: Б21
part 43 pins: А22
part 44 pins: Б22
part 45 pins: А23
part 46 pins: Б23
part 47 pins: А24
part 48 pins: Б24
part 49 pins: А25
part 50 pins: Б25
part 51 pins: А26
part 52 pins: Б26
part 53 pins: А27
part 54 pins: Б27
part 55 pins: А28
part 56 pins: Б28
part 57 pins: А29
part 58 pins: Б29
part 59 pins: А30
part 60 pins: Б30
part 61 pins: Б31

## Con-64-M
designator XP?, comment Text
Published: 02.02.2015; Publisher: Andrew Danich; Type: Вилка
pins: 1, 2, 3, 4, 5, 6, 7, 8, 9, 10, 11, 12, 13, 14, 15, 16, 17, 18, 19, 20, 21, 22, 23, 24, 25, 26, 27, 28, 29, 30, 31, 32, 33, 34, 35, 36, 37, 38, 39, 40, 41, 42, 43, 44, 45, 46, 47, 48, 49, 50, 50, 51, 52, 53, 54, 55, 56, 57, 58, 59, 60, 61, 62, 63, 64

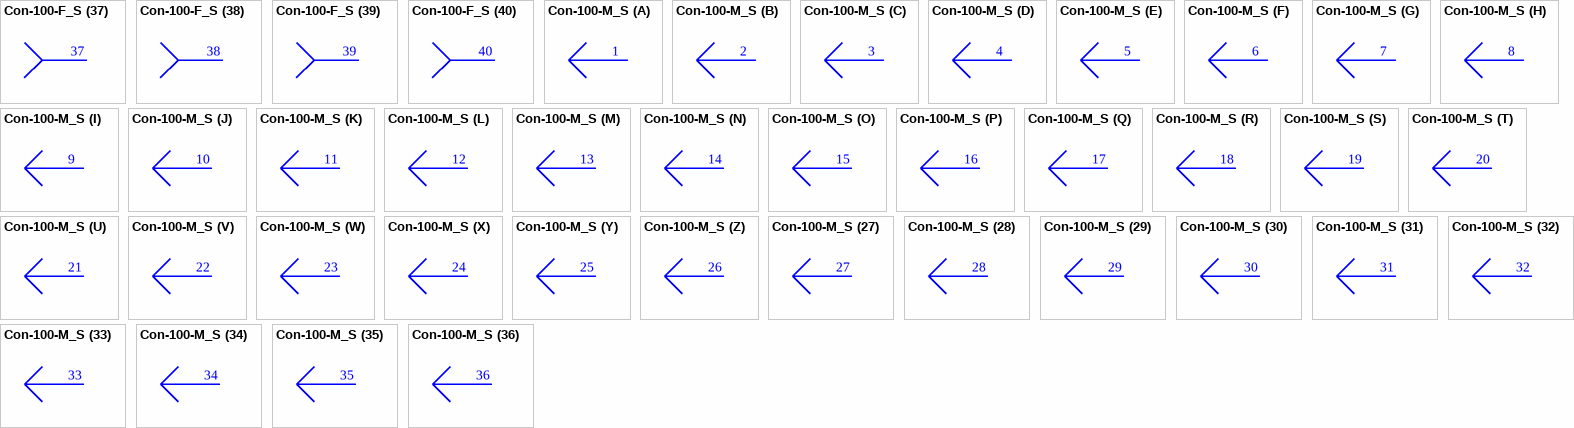
[diagram p9: symbols Con-100-F_S to Con-100-M_S]

## Con-100-F_S
designator XS?, comment Text  (value not drawn)
Published: 16.01.2016; Publisher: Andrew Danich; Type: Розетка
part A pins: 1
part B pins: 2
part C pins: 3
part D pins: 4
part E pins: 5
part F pins: 6
part G pins: 7
part H pins: 8
part I pins: 9
part J pins: 10
part K pins: 11
part L pins: 12
part M pins: 13
part N pins: 14
part O pins: 15
part P pins: 16
part Q pins: 17
part R pins: 18
part S pins: 19
part T pins: 20
part U pins: 21
part V pins: 22
part W pins: 23
part X pins: 24
part Y pins: 25
part Z pins: 26
part 27 pins: 27
part 28 pins: 28
part 29 pins: 29
part 30 pins: 30
part 31 pins: 31
part 32 pins: 32
part 33 pins: 33
part 34 pins: 34
part 35 pins: 35
part 36 pins: 36
part 37 pins: 37
part 38 pins: 38
part 39 pins: 39
part 40 pins: 40
part 41 pins: 41
part 42 pins: 42
part 43 pins: 43
part 44 pins: 44
part 45 pins: 45
part 46 pins: 46
part 47 pins: 47
part 48 pins: 48
part 49 pins: 49
part 50 pins: 50
part 51 pins: 51
part 52 pins: 52
part 53 pins: 53
part 54 pins: 54
part 55 pins: 55
part 56 pins: 56
part 57 pins: 57
part 58 pins: 58
part 59 pins: 59
part 60 pins: 60
part 61 pins: 61
part 62 pins: 62
part 63 pins: 63
part 64 pins: 64
part 65 pins: 65
part 66 pins: 66
part 67 pins: 67
part 68 pins: 68
part 69 pins: 69
part 70 pins: 70
part 71 pins: 71
part 72 pins: 72
part 73 pins: 73
part 74 pins: 74
part 75 pins: 75
part 76 pins: 76
part 77 pins: 77
part 78 pins: 78
part 79 pins: 79
part 80 pins: 80
part 81 pins: 81
part 82 pins: 82
part 83 pins: 83
part 84 pins: 84
part 85 pins: 85
part 86 pins: 86
part 87 pins: 87
part 88 pins: 88
part 89 pins: 89
part 90 pins: 90
part 91 pins: 91
part 92 pins: 92
part 93 pins: 93
part 94 pins: 94
part 95 pins: 95
part 96 pins: 96
part 97 pins: 97
part 98 pins: 98
part 99 pins: 99
part 100 pins: 100

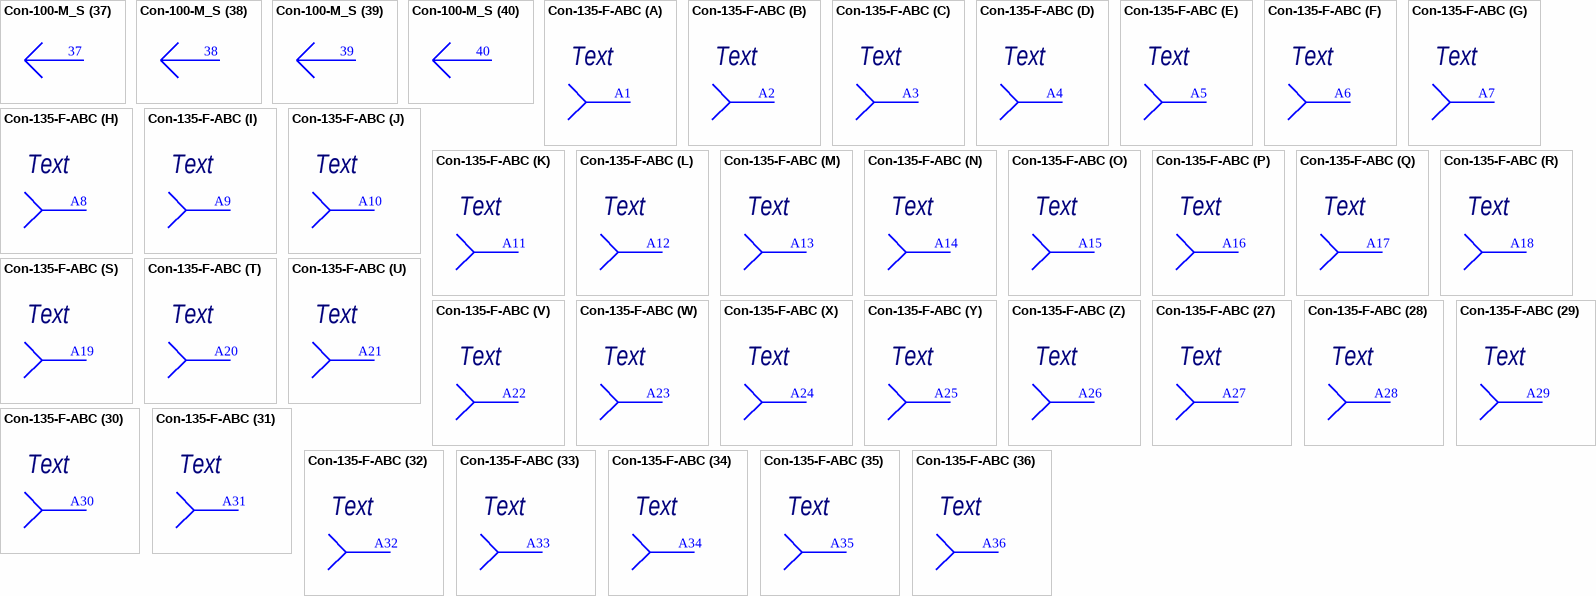
[diagram p10: symbols Con-100-M_S to Con-135-F-ABC]

## Con-100-M_S
designator XP?, comment Text  (value not drawn)
Published: 16.01.2016; Publisher: Andrew Danich; Type: Вилка
part A pins: 1
part B pins: 2
part C pins: 3
part D pins: 4
part E pins: 5
part F pins: 6
part G pins: 7
part H pins: 8
part I pins: 9
part J pins: 10
part K pins: 11
part L pins: 12
part M pins: 13
part N pins: 14
part O pins: 15
part P pins: 16
part Q pins: 17
part R pins: 18
part S pins: 19
part T pins: 20
part U pins: 21
part V pins: 22
part W pins: 23
part X pins: 24
part Y pins: 25
part Z pins: 26
part 27 pins: 27
part 28 pins: 28
part 29 pins: 29
part 30 pins: 30
part 31 pins: 31
part 32 pins: 32
part 33 pins: 33
part 34 pins: 34
part 35 pins: 35
part 36 pins: 36
part 37 pins: 37
part 38 pins: 38
part 39 pins: 39
part 40 pins: 40
part 41 pins: 41
part 42 pins: 42
part 43 pins: 43
part 44 pins: 44
part 45 pins: 45
part 46 pins: 46
part 47 pins: 47
part 48 pins: 48
part 49 pins: 49
part 50 pins: 50
part 51 pins: 51
part 52 pins: 52
part 53 pins: 53
part 54 pins: 54
part 55 pins: 55
part 56 pins: 56
part 57 pins: 57
part 58 pins: 58
part 59 pins: 59
part 60 pins: 60
part 61 pins: 61
part 62 pins: 62
part 63 pins: 63
part 64 pins: 64
part 65 pins: 65
part 66 pins: 66
part 67 pins: 67
part 68 pins: 68
part 69 pins: 69
part 70 pins: 70
part 71 pins: 71
part 72 pins: 72
part 73 pins: 73
part 74 pins: 74
part 75 pins: 75
part 76 pins: 76
part 77 pins: 77
part 78 pins: 78
part 79 pins: 79
part 80 pins: 80
part 81 pins: 81
part 82 pins: 82
part 83 pins: 83
part 84 pins: 84
part 85 pins: 85
part 86 pins: 86
part 87 pins: 87
part 88 pins: 88
part 89 pins: 89
part 90 pins: 90
part 91 pins: 91
part 92 pins: 92
part 93 pins: 93
part 94 pins: 94
part 95 pins: 95
part 96 pins: 96
part 97 pins: 97
part 98 pins: 98
part 99 pins: 99
part 100 pins: 100

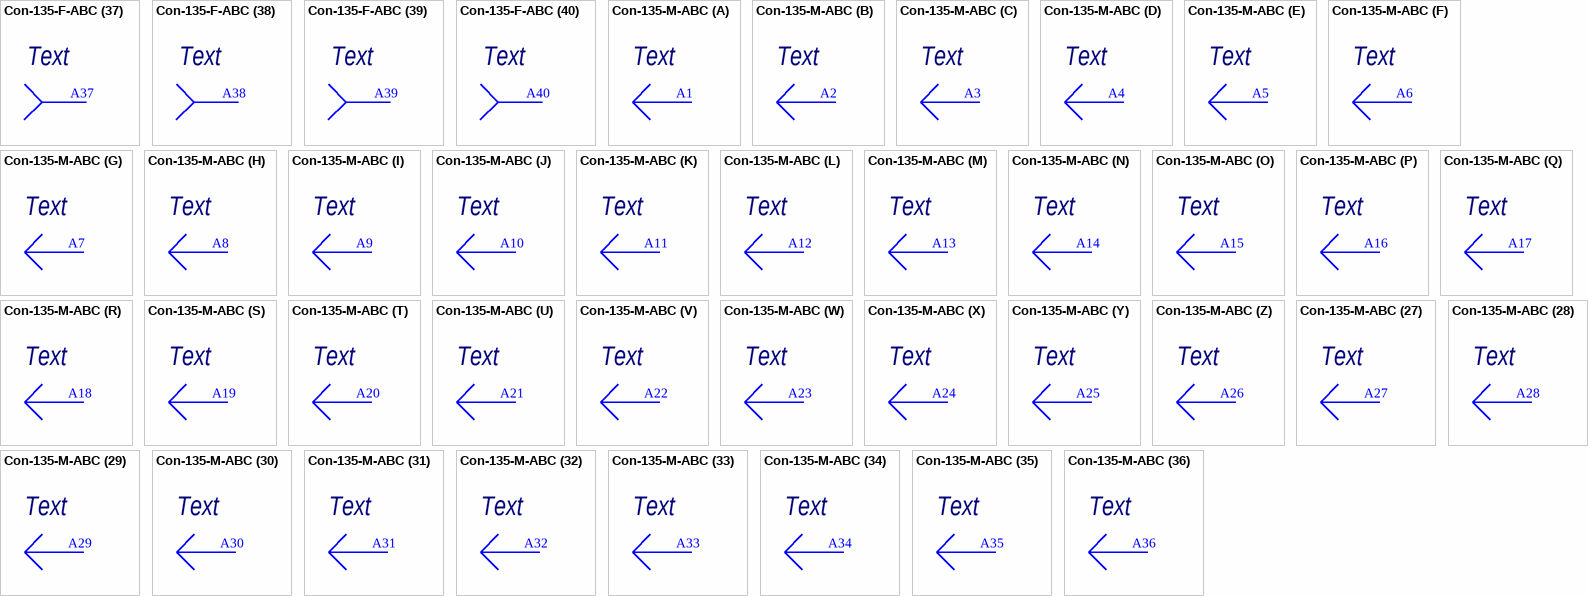
[diagram p11: symbols Con-135-F-ABC to Con-135-M-ABC]

## Con-135-F-ABC
designator XS?, comment Text
Published: 11.06.2010; Publisher: Andrew Danich; Type: Розетка
part A pins: A1
part B pins: A2
part C pins: A3
part D pins: A4
part E pins: A5
part F pins: A6
part G pins: A7
part H pins: A8
part I pins: A9
part J pins: A10
part K pins: A11
part L pins: A12
part M pins: A13
part N pins: A14
part O pins: A15
part P pins: A16
part Q pins: A17
part R pins: A18
part S pins: A19
part T pins: A20
part U pins: A21
part V pins: A22
part W pins: A23
part X pins: A24
part Y pins: A25
part Z pins: A26
part 27 pins: A27
part 28 pins: A28
part 29 pins: A29
part 30 pins: A30
part 31 pins: A31
part 32 pins: A32
part 33 pins: A33
part 34 pins: A34
part 35 pins: A35
part 36 pins: A36
part 37 pins: A37
part 38 pins: A38
part 39 pins: A39
part 40 pins: A40
part 41 pins: A41
part 42 pins: A42
part 43 pins: A43
part 44 pins: A44
part 45 pins: A45
part 46 pins: B1
part 47 pins: B2
part 48 pins: B3
part 49 pins: B4
part 50 pins: B5
part 51 pins: B6
part 52 pins: B7
part 53 pins: B8
part 54 pins: B9
part 55 pins: B10
part 56 pins: B11
part 57 pins: B12
part 58 pins: B13
part 59 pins: B14
part 60 pins: B15
part 61 pins: B16
part 62 pins: B17
part 63 pins: B18
part 64 pins: B19
part 65 pins: B20
part 66 pins: B21
part 67 pins: B22
part 68 pins: B23
part 69 pins: B24
part 70 pins: B25
part 71 pins: B26
part 72 pins: B27
part 73 pins: B28
part 74 pins: B29
part 75 pins: B30
part 76 pins: B31
part 77 pins: B32
part 78 pins: B33
part 79 pins: B34
part 80 pins: B35
part 81 pins: B36
part 82 pins: B37
part 83 pins: B38
part 84 pins: B39
part 85 pins: B40
part 86 pins: B41
part 87 pins: B42
part 88 pins: B43
part 89 pins: B44
part 90 pins: B45
part 91 pins: C1
part 92 pins: C2
part 93 pins: C3
part 94 pins: C4
part 95 pins: C5
part 96 pins: C6
part 97 pins: C7
part 98 pins: C8
part 99 pins: C9
part 100 pins: C10
part 101 pins: C11
part 102 pins: C12
part 103 pins: C13
part 104 pins: C14
part 105 pins: C15
part 106 pins: C16
part 107 pins: C17
part 108 pins: C18
part 109 pins: C19
part 110 pins: C20
part 111 pins: C21
part 112 pins: C22
part 113 pins: C23
part 114 pins: C24
part 115 pins: C25
part 116 pins: C26
part 117 pins: C27
part 118 pins: C28
part 119 pins: C29
part 120 pins: C30
part 121 pins: C31
part 122 pins: C32
part 123 pins: C33
part 124 pins: C34
part 125 pins: C35
part 126 pins: C36
part 127 pins: C37
part 128 pins: C38
part 129 pins: C39
part 130 pins: C40
part 131 pins: C41
part 132 pins: C42
part 133 pins: C43
part 134 pins: C44
part 135 pins: C45

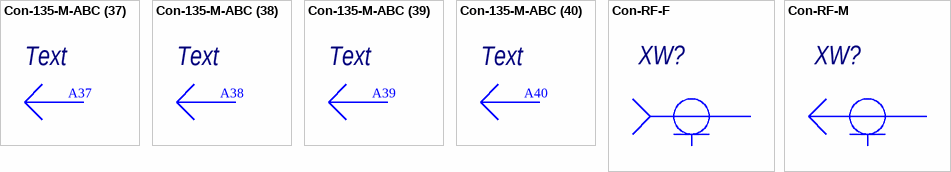
[diagram p12: symbols Con-135-M-ABC to Con-RF-M]

## Con-135-M-ABC
designator XP?, comment Text
Published: 04.04.2014; Publisher: Andrew Danich; Type: Вилка
part A pins: A1
part B pins: A2
part C pins: A3
part D pins: A4
part E pins: A5
part F pins: A6
part G pins: A7
part H pins: A8
part I pins: A9
part J pins: A10
part K pins: A11
part L pins: A12
part M pins: A13
part N pins: A14
part O pins: A15
part P pins: A16
part Q pins: A17
part R pins: A18
part S pins: A19
part T pins: A20
part U pins: A21
part V pins: A22
part W pins: A23
part X pins: A24
part Y pins: A25
part Z pins: A26
part 27 pins: A27
part 28 pins: A28
part 29 pins: A29
part 30 pins: A30
part 31 pins: A31
part 32 pins: A32
part 33 pins: A33
part 34 pins: A34
part 35 pins: A35
part 36 pins: A36
part 37 pins: A37
part 38 pins: A38
part 39 pins: A39
part 40 pins: A40
part 41 pins: A41
part 42 pins: A42
part 43 pins: A43
part 44 pins: A44
part 45 pins: A45
part 46 pins: B1
part 47 pins: B2
part 48 pins: B3
part 49 pins: B4
part 50 pins: B5
part 51 pins: B6
part 52 pins: B7
part 53 pins: B8
part 54 pins: B9
part 55 pins: B10
part 56 pins: B11
part 57 pins: B12
part 58 pins: B13
part 59 pins: B14
part 60 pins: B15
part 61 pins: B16
part 62 pins: B17
part 63 pins: B18
part 64 pins: B19
part 65 pins: B20
part 66 pins: B21
part 67 pins: B22
part 68 pins: B23
part 69 pins: B24
part 70 pins: B25
part 71 pins: B26
part 72 pins: B27
part 73 pins: B28
part 74 pins: B29
part 75 pins: B30
part 76 pins: B31
part 77 pins: B32
part 78 pins: B33
part 79 pins: B34
part 80 pins: B35
part 81 pins: B36
part 82 pins: B37
part 83 pins: B38
part 84 pins: B39
part 85 pins: B40
part 86 pins: B41
part 87 pins: B42
part 88 pins: B43
part 89 pins: B44
part 90 pins: B45
part 91 pins: C1
part 92 pins: C2
part 93 pins: C3
part 94 pins: C4
part 95 pins: C5
part 96 pins: C6
part 97 pins: C7
part 98 pins: C8
part 99 pins: C9
part 100 pins: C10
part 101 pins: C11
part 102 pins: C12
part 103 pins: C13
part 104 pins: C14
part 105 pins: C15
part 106 pins: C16
part 107 pins: C17
part 108 pins: C18
part 109 pins: C19
part 110 pins: C20
part 111 pins: C21
part 112 pins: C22
part 113 pins: C23
part 114 pins: C24
part 115 pins: C25
part 116 pins: C26
part 117 pins: C27
part 118 pins: C28
part 119 pins: C29
part 120 pins: C30
part 121 pins: C31
part 122 pins: C32
part 123 pins: C33
part 124 pins: C34
part 125 pins: C35
part 126 pins: C36
part 127 pins: C37
part 128 pins: C38
part 129 pins: C39
part 130 pins: C40
part 131 pins: C41
part 132 pins: C42
part 133 pins: C43
part 134 pins: C44
part 135 pins: C45

## Con-RF-F
designator XW?
Published: 19.09.2015; Publisher: НТЦ "Вектор"; Type: Розетка
pins: 1 "Signal", 2 "Ground"

## Con-RF-M
designator XW?
Published: 19.09.2015; Publisher: НТЦ "Вектор"; Type: Вилка
pins: 1 "Signal", 2 "Ground"